# Altium schematic symbol library PMIC.SchLib: 11 symbols
Pins are listed as number, name and electrical type; pins without a type are passive.

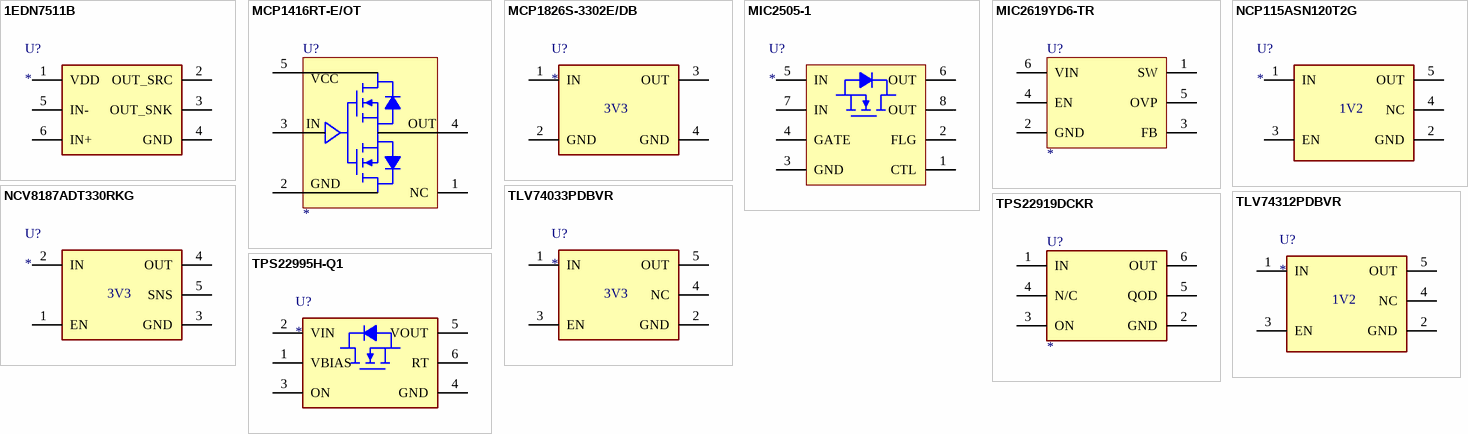
[diagram p0: symbols 1EDN7511B to TPS22995H-Q1]

## 1EDN7511B
designator U?
Low-Side Gate Driver IC Inverting, Non-Inverting PG-SOT23-6-2
footprint SOT-23-6 (generic sot-23-6 footprint)
pins: 1 VDD, 2 OUT_SRC, 3 OUT_SNK, 4 GND, 5 IN-, 6 IN+

## MCP1416RT-E/OT
designator U?
Low-Side Gate Driver IC Non-Inverting SOT-23-5
footprint SOT-23-5 (generic sot-23-5 footprint)
pins: 1 NC, 2 GND, 3 IN, 4 OUT, 5 Vcc
text: VCC

## MCP1826S-3302E/DB
designator U?
Linear Voltage Regulator IC Positive Fixed 1 Output 1A SOT-223-3
footprint SOT-223-3
pins: 1 IN, 2 GND, 3 OUT, 4 GND
text: 3V3

## MIC2505-1
designator U?
Power Switch/Driver 1:1 N-Channel 2A 8-SOIC
footprint SOIC-8
pins: 1 CTL, 2 FLG, 3 GND, 4 GATE, 5 IN, 6 OUT, 7 IN, 8 OUT

## MIC2619YD6-TR
designator U?
Boost Switching Regulator IC Positive Adjustable 2.8V 1 Output 350mA (Switch) SOT-23-6 Thin, TSOT-23-6
footprint SOT-23-6 (generic sot-23-6 footprint)
pins: 1 SW, 2 GND, 3 FB, 4 EN, 5 OVP, 6 VIN

## NCP115ASN120T2G
designator U?
Linear Voltage Regulator IC Positive Fixed 1 Output 300mA 5-TSOP
footprint SOT-23-5 (generic sot-23-5 footprint)
pins: 1 IN, 2 GND, 3 EN, 4 NC, 5 OUT
text: 1V2

## NCV8187ADT330RKG
designator U?
Linear Voltage Regulator IC Positive Fixed 1 Output 1.5A DPAK-5
footprint DPAK-5
pins: 1 EN, 2 IN, 3 GND, 4 OUT, 5 SNS
text: 3V3

## TLV74033PDBVR
designator U?
Linear Voltage Regulator IC Positive Fixed 1 Output 300mA SOT-23-5
footprint SOT-23-5 (generic sot-23-5 footprint)
pins: 1 IN, 2 GND, 3 EN, 4 NC, 5 OUT
text: 3V3

## TLV74312PDBVR
designator U?
Linear Voltage Regulator IC Positive Fixed 1 Output 300mA SOT-23-5
footprint SOT-23-5 (generic sot-23-5 footprint)
pins: 1 IN, 2 GND, 3 EN, 4 NC, 5 OUT
text: 1V2

## TPS22919DCKR
designator U?
Power Switch/Driver 1:1 N-Channel 1.5A SC-70-6
footprint SOT-363 (6 pin compact footprint)
pins: 1 IN, 2 GND, 3 ON, 4 N/C, 5 QOD, 6 OUT

## TPS22995H-Q1
designator U?
Power Switch/Driver 1:1 N-Channel 3A SOT-23-THIN
footprint SOT-23-6 (generic sot-23-6 footprint)
pins: 1 VBIAS, 2 VIN, 3 ON, 4 GND, 5 VOUT, 6 RT